# EAGLE library part DPX167125DT-8197B1 (library DPX167125DT-8197B1)
Signal Conditioning Multilayer DPX for 2.4-2.5GHz W-LAN&BT/5-7GHz W-LAN Source: Datasheet <https://www.mouser.ph/ProductDetail/TDK/DPX167125DT-8197B1?qs=iLKYxzqNS75cuGe4fWh6hg==>
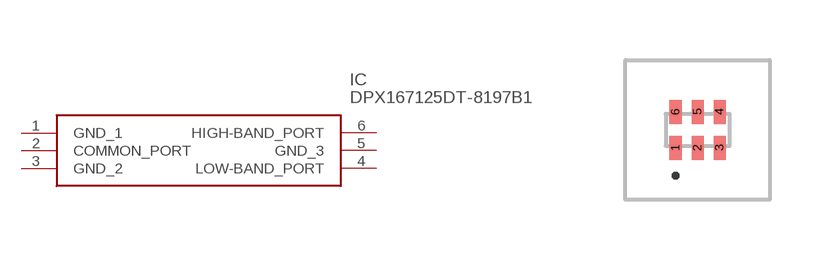
[diagram p0: symbol with the pads of DPX167125DT8197B1; footprint DPX167125DT8197B1]

Designator prefix IC

## DPX167125DT-8197B1 (Arrow_Part_Number: DPX167125DT-8197B1; Arrow_Price-Stock: https://www.arrow.com/en/products/dpx167125dt-8197b1/tdk?utm_currency=USD&region=nac; Description: Signal Conditioning Multilayer DPX for 2.4-2.5GHz W-LAN&BT/5-7GHz W-LAN; Height: 0.7mm; Manufacturer_Name: TDK; Manufacturer_Part_Number: DPX167125DT-8197B1)  [DPX167125DT8197B1]
1  GND_1
2  COMMON_PORT
3  GND_2
4  LOW-BAND_PORT
5  GND_3
6  HIGH-BAND_PORT

## Footprint DPX167125DT8197B1 (pad centres in mm)
DPX167125DT-8197B1-1
smd 0.3 x 0.6: 1 -0.55,-0.45; 2 0,-0.45; 3 0.55,-0.45; 4 0.55,0.45; 5 0,0.45; 6 -0.55,0.45